# Altium integrated library Infineon_Microcontroller.IntLib: 721 symbols (part 50 of 66)
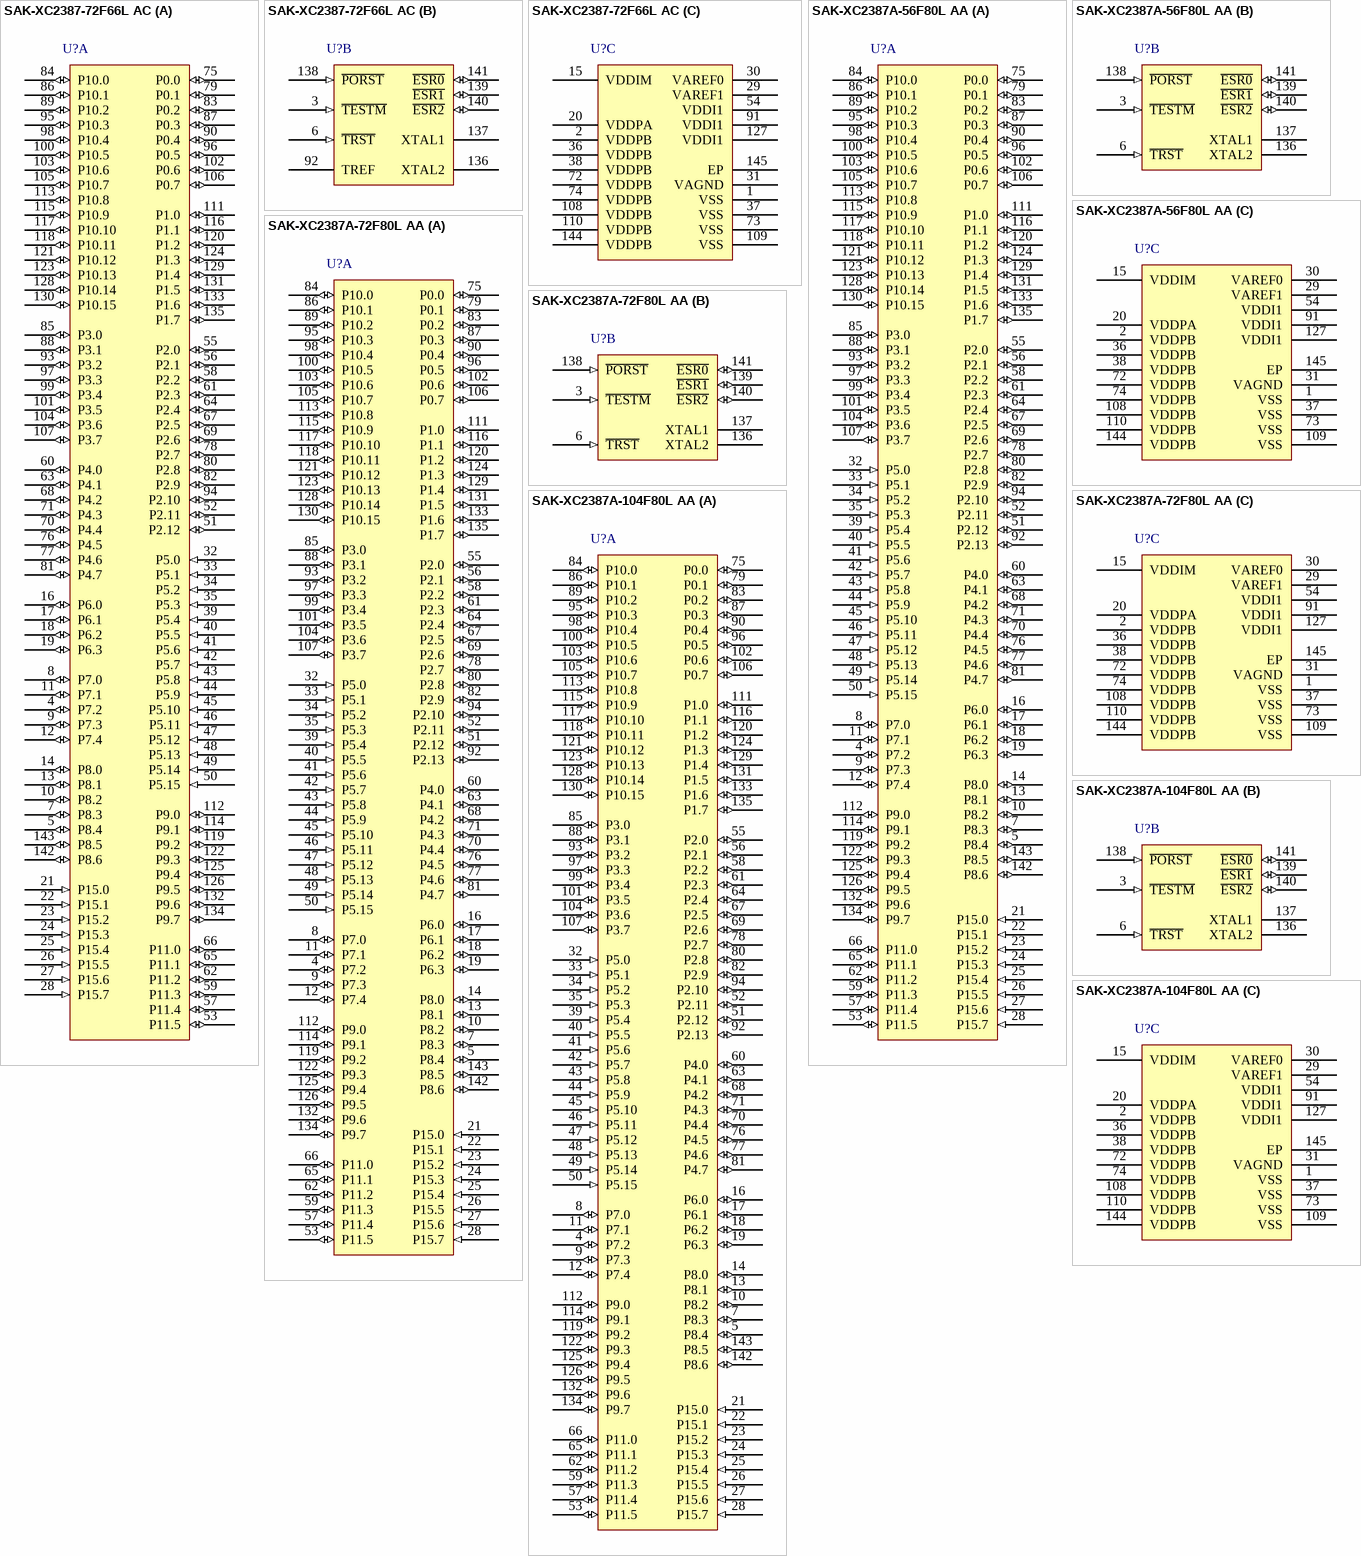
[diagram p167: symbols SAK-XC2387-72F66L AC to SAK-XC2387A-104F80L AA]

## SAK-XC2387A-104F80L AA
designator U?
80 MHz XC2300 MCU with 832 KByte Program Memory, 50 KByte SRAM, 3 V, 5.5 V, -40 to 125 degC, PG-LQFP-144, Reel, Green; Manufacturer: Infineon; PartNumber: SAK-XC2387A-104F80L AA; A / D input lines (incl. FADC): 24; CAN Nodes: 3; Digital I/O Lines: 118; DMA Channels: 8; DSP functionality (e.g MDU/MAC): TRUE; FlexRay TM: FALSE; Instruction width [bits]: 16/32; LIN BSL loader (for fast Flash programming): FALSE; Max Clock Frequency: 80 MHz; Number of ADC Modules: 2; Serial I/O Interfaces: 6; Timed I/O Pins (PWM-Ch,CAPCOM): 36; Timer / Counter: 11; Type of Memory: Flash; Type of Serial I/O Interfaces: SPI(6), LIN, UART, I2C, I2S; DatasheetVersion: Rev. 2.1; PackageVersion: V2.1, 07/2011; PackageReference: PG-LQFP-144-13; PackageDescription: 144-Pin Plastic Green Thin Quad Flat Package, Body 20 x 20 mm, Pitch 0.5 mm; Supplier 1: Digi-Key; Supplier Part Number 1: SAK-XC2387A-104F80L AA-ND; E2PROM Emulation (Data-Flash): TRUE; External Bus interface: TRUE; Green: TRUE; Halogen-free: TRUE; I/O Operation Voltages: 3 V, 5.5 V; On-chip clock generation: TRUE; On-chip Voltage Regulator: TRUE; Oscillator Watchdog: TRUE; Packing: Reel; Power Modes: 3; Program Memory: 832 KByte; Real Time Clock (RTC): TRUE; SRAM (incl. Cache): 50 KByte; Watchdog Timer: TRUE; Mounting Technology: Surface Mount; Code_JEDEC: J-STD-020C; ComponentLink1Description: Manufacturer URL; ComponentLink1URL: http://www.infineon.com/; ComponentLink2Description: Datasheet; ComponentLink2URL: http://www.infineon.com/dgdl/xc238xa_ds_v2+1_2011_07.pdf?folderId=db3a304412b407950112b409d4b00386&fileId=db3a3043353fdc16013557e024517b1e; ComponentLink3Description: Package Specification; ComponentLink3URL: http://www.infineon.com/dgdl/xc238xa_ds_v2+1_2011_07.pdf?folderId=db3a304412b407950112b409d4b00386&fileId=db3a3043353fdc16013557e024517b1e&sId=db3a30443d98b7f0013d9b8ad537024b
footprint INF-PG-LQFP-144-13_N (QFP, 144-Leads, Body 20x20mm, Pitch 0.5mm, Thermal Pad 6.5x6.5mm, IPC Medium Density)
footprint INF-PG-LQFP-144-13_L (QFP, 144-Leads, Body 20x20mm, Pitch 0.5mm, Thermal Pad 6.5x6.5mm, IPC High Density)
footprint INF-PG-LQFP-144-13_M (QFP, 144-Leads, Body 20x20mm, Pitch 0.5mm, Thermal Pad 6.5x6.5mm, IPC Low Density)
part A pins: 4 P7.2 (io), 5 P8.4 (io), 7 P8.3 (io), 8 P7.0 (io), 9 P7.3 (io), 10 P8.2 (io), 11 P7.1 (io), 12 P7.4 (io), 13 P8.1 (io), 14 P8.0 (io), 16 P6.0 (io), 17 P6.1 (io), 18 P6.2 (io), 19 P6.3 (io), 21 P15.0 (in), 22 P15.1 (in), 23 P15.2 (in), 24 P15.3 (in), 25 P15.4 (in), 26 P15.5 (in), 27 P15.6 (in), 28 P15.7 (in), 32 P5.0 (in), 33 P5.1 (in), 34 P5.2 (in), 35 P5.3 (in), 39 P5.4 (in), 40 P5.5 (in), 41 P5.6 (in), 42 P5.7 (in), 43 P5.8 (in), 44 P5.9 (in), 45 P5.10 (in), 46 P5.11 (in), 47 P5.12 (in), 48 P5.13 (in), 49 P5.14 (in), 50 P5.15 (in), 51 P2.12 (io), 52 P2.11 (io), 53 P11.5 (io), 55 P2.0 (io), 56 P2.1 (io), 57 P11.4 (io), 58 P2.2 (io), 59 P11.3 (io), 60 P4.0 (io), 61 P2.3 (io), 62 P11.2 (io), 63 P4.1 (io), 64 P2.4 (io), 65 P11.1 (io), 66 P11.0 (io), 67 P2.5 (io), 68 P4.2 (io), 69 P2.6 (io), 70 P4.4 (io), 71 P4.3 (io), 75 P0.0 (io), 76 P4.5 (io), 77 P4.6 (io), 78 P2.7 (io), 79 P0.1 (io), 80 P2.8 (io), 81 P4.7 (io), 82 P2.9 (io), 83 P0.2 (io), 84 P10.0 (io), 85 P3.0 (io), 86 P10.1 (io), 87 P0.3 (io), 88 P3.1 (io), 89 P10.2 (io), 90 P0.4 (io), 92 P2.13 (io), 93 P3.2 (io), 94 P2.10 (io), 95 P10.3 (io), 96 P0.5 (io), 97 P3.3 (io), 98 P10.4 (io), 99 P3.4 (io), 100 P10.5 (io), 101 P3.5 (io), 102 P0.6 (io), 103 P10.6 (io), 104 P3.6 (io), 105 P10.7 (io), 106 P0.7 (io), 107 P3.7 (io), 111 P1.0 (io), 112 P9.0 (io), 113 P10.8 (io), 114 P9.1 (io), 115 P10.9 (io), 116 P1.1 (io), 117 P10.10 (io), 118 P10.11 (io), 119 P9.2 (io), 120 P1.2 (io), 121 P10.12 (io), 122 P9.3 (io), 123 P10.13 (io), 124 P1.3 (io), 125 P9.4 (io), 126 P9.5 (io), 128 P10.14 (io), 129 P1.4 (io), 130 P10.15 (io), 131 P1.5 (io), 132 P9.6 (io), 133 P1.6 (io), 134 P9.7 (io), 135 P1.7 (io), 142 P8.6 (io), 143 P8.5 (io)
part B pins: 3 ~{TESTM} (in) "Testmode Enable", 6 ~{TRST} (in) "Test-System Reset Input", 136 XTAL2 "Crystal Oscillator Amplifier Output", 137 XTAL1, 138 ~{PORST} (in) "Power On Reset Input", 139 ~{ESR1} (io), 140 ~{ESR2} (io), 141 ~{ESR0} (io)
part C pins: 1 VSS (power) "Digital Ground.", 2 VDDPB (power) "Digital Pad Supply Voltage for Domain B.", 15 VDDIM (power) "Digital Core Supply Voltage for Domain M", 20 VDDPA (power) "Digital Pad Supply Voltage for Domain A.", 29 VAREF1 (power) "Reference Voltage for A/D Converter ADC1", 30 VAREF0 (power) "Reference Voltage for A/D Converter ADC0", 31 VAGND (power) "Reference Ground for A/D Converters ADC0/1", 36 VDDPB (power) "Digital Pad Supply Voltage for Domain B.", 37 VSS (power) "Digital Ground.", 38 VDDPB (power) "Digital Pad Supply Voltage for Domain B.", 54 VDDI1 (power) "Digital Core Supply Voltage for Domain 1", 72 VDDPB (power) "Digital Pad Supply Voltage for Domain B.", 73 VSS (power) "Digital Ground.", 74 VDDPB (power) "Digital Pad Supply Voltage for Domain B.", 91 VDDI1 (power) "Digital Core Supply Voltage for Domain 1", 108 VDDPB (power) "Digital Pad Supply Voltage for Domain B.", 109 VSS (power) "Digital Ground.", 110 VDDPB (power) "Digital Pad Supply Voltage for Domain B.", 127 VDDI1 (power) "Digital Core Supply Voltage for Domain 1", 144 VDDPB (power) "Digital Pad Supply Voltage for Domain B.", 145 EP (power)

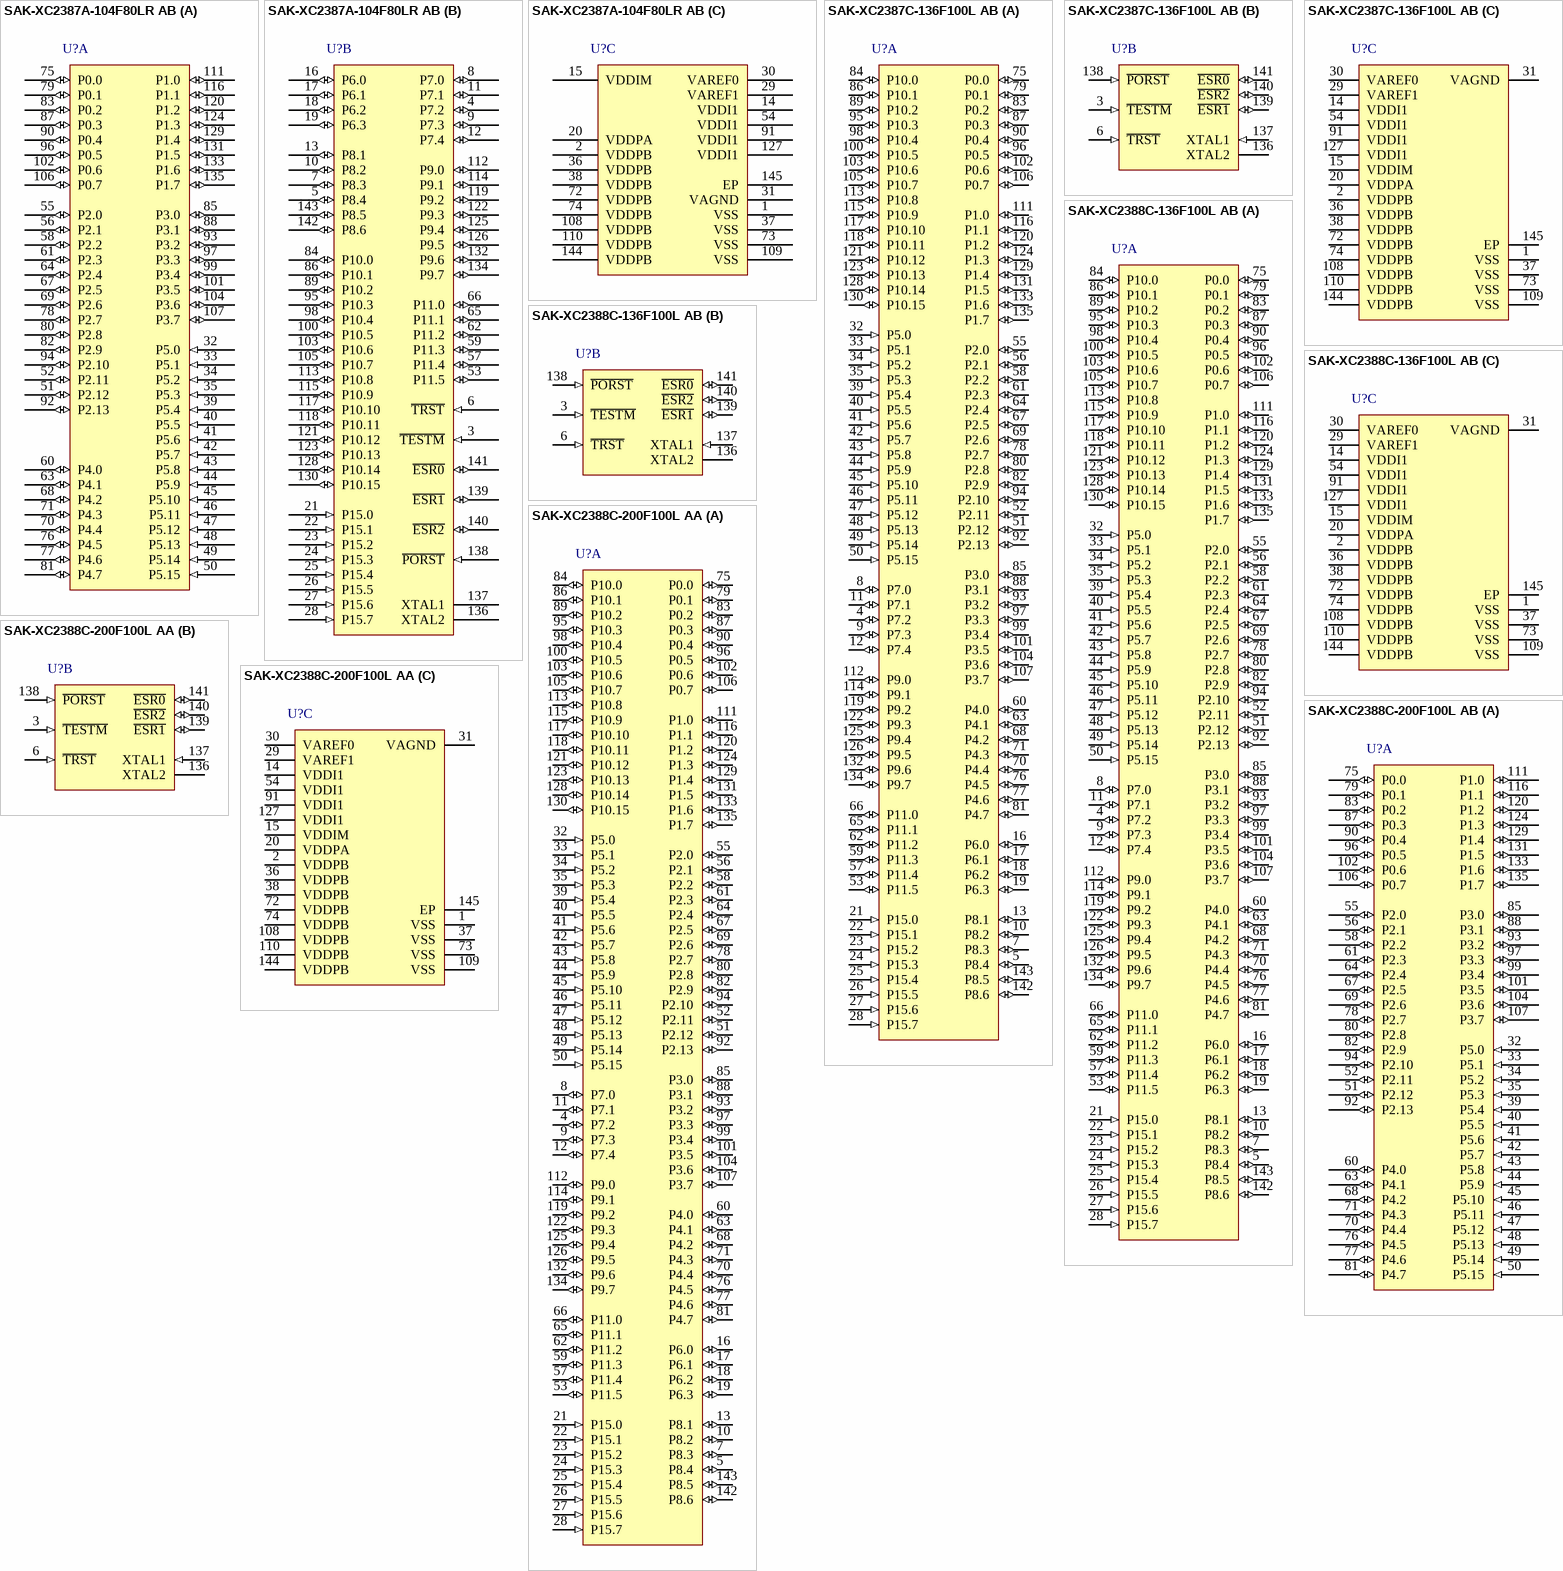
[diagram p90: symbols SAK-XC2387A-104F80LR AB to SAK-XC2388C-200F100L AB]

## SAK-XC2387A-104F80LR AB
designator U?
80 MHz XC2000 MCU with 832 KByte Program Memory, 50 KByte SRAM, 3.3 V, -40 to 125 degC, PG-LQFP-144, Reel, Green; Manufacturer: Infineon; PartNumber: SAK-XC2387A-104F80LR AB; A / D input lines (incl. FADC): 24; CAN Nodes: 3; Digital I/O Lines: 118; DMA Channels: 8; DSP functionality (e.g MDU/MAC): TRUE; FlexRayTM: FALSE; I/O Operation Voltages: 3.3 V; Instruction width [bits]: 16/32; Max Clock Frequency: 80 MHz; Number of ADC Modules: 2; Serial I/O Interfaces: 6; Timed I/O Pins (PWM-Ch,CAPCOM): 32; Timer / Counter: 17; Type of Memory: Flash; Type of Serial I/O Interfaces: UART; DatasheetVersion: Rev. 2.12; PackageReference: PG-LQFP-144-18; PackageDescription: 144-Pin Plastic (Green) Low Profile Quad Flat Package, 20 x 20 mm Body, 0.5 mm Pitch; E2PROM Emulation (Data-Flash): TRUE; External Bus interface: TRUE; Floating Point Unit: FALSE; Green: TRUE; Halogen-free: TRUE; LIN BSL loader (for fast Flash programming): TRUE; On-chip clock generation: TRUE; On-chip Voltage Regulator: TRUE; Oscillator Watchdog: TRUE; Packing: Reel; Power Modes: 2; Program Memory: 832 KByte; Real Time Clock (RTC): TRUE; SRAM (incl. Cache): 50 KByte; Mounting Technology: Surface Mount; ComponentLink1Description: Manufacturer URL; ComponentLink1URL: http://www.infineon.com/; ComponentLink2Description: Datasheet; ComponentLink2URL: http://www.infineon.com/dgdl/xc238xa_ds_v2.12_2014_06.pdf?folderId=db3a304412b407950112b409d4b00386&fileId=db3a3043353fdc16013557e024517b1e; ComponentLink3Description: Package Specification; ComponentLink3URL: http://www.infineon.com/cms/packages/SMD_-_Surface_Mounted_Devices/P-PG-LQFP/P-PG-LQFP-144-04x_13x_14x_15x_16x_18x_23.html?__locale=en
footprint INF-PG-LQFP-144-18-6500X6500TP_N (QFP, 144-Leads, Body 20x20mm, Pitch 0.5mm, Thermal Pad 6.5x6.5mm, IPC Medium Density)
footprint INF-PG-LQFP-144-18-6500X6500TP_L (QFP, 144-Leads, Body 20x20mm, Pitch 0.5mm, Thermal Pad 6.5x6.5mm, IPC High Density)
footprint INF-PG-LQFP-144-18-6500X6500TP_M (QFP, 144-Leads, Body 20x20mm, Pitch 0.5mm, Thermal Pad 6.5x6.5mm, IPC Low Density)
part A pins: 32 P5.0 (in), 33 P5.1 (in), 34 P5.2 (in), 35 P5.3 (in), 39 P5.4 (in), 40 P5.5 (in), 41 P5.6 (in), 42 P5.7 (in), 43 P5.8 (in), 44 P5.9 (in), 45 P5.10 (in), 46 P5.11 (in), 47 P5.12 (in), 48 P5.13 (in), 49 P5.14 (in), 50 P5.15 (in), 51 P2.12 (io), 52 P2.11 (io), 55 P2.0 (io), 56 P2.1 (io), 58 P2.2 (io), 60 P4.0 (io), 61 P2.3 (io), 63 P4.1 (io), 64 P2.4 (io), 67 P2.5 (io), 68 P4.2 (io), 69 P2.6 (io), 70 P4.4 (io), 71 P4.3 (io), 75 P0.0 (io), 76 P4.5 (io), 77 P4.6 (io), 78 P2.7 (io), 79 P0.1 (io), 80 P2.8 (io), 81 P4.7 (io), 82 P2.9 (io), 83 P0.2 (io), 85 P3.0 (io), 87 P0.3 (io), 88 P3.1 (io), 90 P0.4 (io), 92 P2.13 (io), 93 P3.2 (io), 94 P2.10 (io), 96 P0.5 (io), 97 P3.3 (io), 99 P3.4 (io), 101 P3.5 (io), 102 P0.6 (io), 104 P3.6 (io), 106 P0.7 (io), 107 P3.7 (io), 111 P1.0 (io), 116 P1.1 (io), 120 P1.2 (io), 124 P1.3 (io), 129 P1.4 (io), 131 P1.5 (io), 133 P1.6 (io), 135 P1.7 (io)
part B pins: 3 ~{TESTM} (in) "Testmode Enable", 4 P7.2 (io), 5 P8.4 (io), 6 ~{TRST} (in) "Test-System Reset Input", 7 P8.3 (io), 8 P7.0 (io), 9 P7.3 (io), 10 P8.2 (io), 11 P7.1 (io), 12 P7.4 (io), 13 P8.1 (io), 16 P6.0 (io), 17 P6.1 (io), 18 P6.2 (io), 19 P6.3 (io), 21 P15.0 (in), 22 P15.1 (in), 23 P15.2 (in), 24 P15.3 (in), 25 P15.4 (in), 26 P15.5 (in), 27 P15.6 (in), 28 P15.7 (in), 53 P11.5 (io), 57 P11.4 (io), 59 P11.3 (io), 62 P11.2 (io), 65 P11.1 (io), 66 P11.0 (io), 84 P10.0 (io), 86 P10.1 (io), 89 P10.2 (io), 95 P10.3 (io), 98 P10.4 (io), 100 P10.5 (io), 103 P10.6 (io), 105 P10.7 (io), 112 P9.0 (io), 113 P10.8 (io), 114 P9.1 (io), 115 P10.9 (io), 117 P10.10 (io), 118 P10.11 (io), 119 P9.2 (io), 121 P10.12 (io), 122 P9.3 (io), 123 P10.13 (io), 125 P9.4 (io), 126 P9.5 (io), 128 P10.14 (io), 130 P10.15 (io), 132 P9.6 (io), 134 P9.7 (io), 136 XTAL2 "Crystal Oscillator Amplifier Output", 137 XTAL1, 138 ~{PORST} (in) "Power On Reset Input", 139 ~{ESR1} (io), 140 ~{ESR2} (io), 141 ~{ESR0} (io), 142 P8.6 (io), 143 P8.5 (io)
part C pins: 1 VSS (power) "Digital Ground", 2 VDDPB (power) "Digital Pad Supply Voltage for Domain B", 14 VDDI1 (power) "Digital Core Supply Voltage for Domain 1", 15 VDDIM (power) "Digital Core Supply Voltage for Domain M", 20 VDDPA (power) "Digital Pad Supply Voltage for Domain A", 29 VAREF1 (power) "Reference Voltage for A/D Converter ADC1", 30 VAREF0 (power) "Reference Voltage for A/D Converter ADC0", 31 VAGND (power) "Reference Ground for A/D Converters ADC0/1", 36 VDDPB (power) "Digital Pad Supply Voltage for Domain B", 37 VSS (power) "Digital Ground", 38 VDDPB (power) "Digital Pad Supply Voltage for Domain B", 54 VDDI1 (power) "Digital Core Supply Voltage for Domain 1", 72 VDDPB (power) "Digital Pad Supply Voltage for Domain B", 73 VSS (power) "Digital Ground", 74 VDDPB (power) "Digital Pad Supply Voltage for Domain B", 91 VDDI1 (power) "Digital Core Supply Voltage for Domain 1", 108 VDDPB (power) "Digital Pad Supply Voltage for Domain B", 109 VSS (power) "Digital Ground", 110 VDDPB (power) "Digital Pad Supply Voltage for Domain B", 127 VDDI1 (power) "Digital Core Supply Voltage for Domain 1", 144 VDDPB (power) "Digital Pad Supply Voltage for Domain B", 145 EP (power)

## SAK-XC2387C-136F100L AB
designator U?
100 MHz XC2300 MCU with 1,088 KByte Program Memory, 90 KByte SRAM, 3 V, 5.5 V, -40 to 125 degC, PG-LQFP-144, Reel, Green; Manufacturer: Infineon; PartNumber: SAK-XC2387C-136F100L AB; A / D input lines (incl. FADC): 24; CAN Nodes: 3; Digital I/O Lines: 118; DMA Channels: 8; DSP functionality (e.g MDU/MAC): TRUE; FlexRay TM: FALSE; Instruction width [bits]: 16/32; Max Clock Frequency: 100 MHz; Number of ADC Modules: 2; Serial I/O Interfaces: 6; Timed I/O Pins (PWM-Ch,CAPCOM): 32; Timer / Counter: 19; Type of Memory: Flash; Type of Serial I/O Interfaces: SPI(1), LIN, UART, I2C, I2S; DatasheetVersion: Rev. 1.3; PackageVersion: V2.1, 07/2011; PackageReference: PG-LQFP-144-13; PackageDescription: 144-Pin Plastic Green Thin Quad Flat Package, Body 20 x 20 mm, Pitch 0.5 mm; E2PROM Emulation (Data-Flash): TRUE; External Bus interface: TRUE; Green: TRUE; Halogen-free: TRUE; I/O Operation Voltages: 3 V, 5.5 V; LIN BSL loader (for fast Flash programming): TRUE; On-chip clock generation: TRUE; On-chip Voltage Regulator: TRUE; Oscillator Watchdog: TRUE; Packing: Reel; Power Modes: 2; Program Memory: 1,088 KByte; Real Time Clock (RTC): TRUE; SRAM (incl. Cache): 90 KByte; Watchdog Timer: TRUE; Mounting Technology: Surface Mount; Code_JEDEC: J-STD-020C; ComponentLink1Description: Manufacturer URL; ComponentLink1URL: http://www.infineon.com/; ComponentLink2Description: Datasheet; ComponentLink2URL: http://www.infineon.com/dgdl/xc238xc_ds_v1.3_2011_07.pdf?folderId=db3a30431375fb1a0113864e0cc701b6&fileId=db3a304328c6bd5c012911df7971097e; ComponentLink3Description: Package Specification; ComponentLink3URL: http://www.infineon.com/dgdl/xc238xa_ds_v2+1_2011_07.pdf?folderId=db3a304412b407950112b409d4b00386&fileId=db3a3043353fdc16013557e024517b1e&sId=db3a30443d98b7f0013d9b8ad537024b
footprint INF-PG-LQFP-144-13_N (QFP, 144-Leads, Body 20x20mm, Pitch 0.5mm, Thermal Pad 6.5x6.5mm, IPC Medium Density)
footprint INF-PG-LQFP-144-13_L (QFP, 144-Leads, Body 20x20mm, Pitch 0.5mm, Thermal Pad 6.5x6.5mm, IPC High Density)
footprint INF-PG-LQFP-144-13_M (QFP, 144-Leads, Body 20x20mm, Pitch 0.5mm, Thermal Pad 6.5x6.5mm, IPC Low Density)
part A pins: 4 P7.2 (io), 5 P8.4 (io), 7 P8.3 (io), 8 P7.0 (io), 9 P7.3 (io), 10 P8.2 (io), 11 P7.1 (io), 12 P7.4 (io), 13 P8.1 (io), 16 P6.0 (io), 17 P6.1 (io), 18 P6.2 (io), 19 P6.3 (io), 21 P15.0 (in), 22 P15.1 (in), 23 P15.2 (in), 24 P15.3 (in), 25 P15.4 (in), 26 P15.5 (in), 27 P15.6 (in), 28 P15.7 (in), 32 P5.0 (in), 33 P5.1 (in), 34 P5.2 (in), 35 P5.3 (in), 39 P5.4 (in), 40 P5.5 (in), 41 P5.6 (in), 42 P5.7 (in), 43 P5.8 (in), 44 P5.9 (in), 45 P5.10 (in), 46 P5.11 (in), 47 P5.12 (in), 48 P5.13 (in), 49 P5.14 (in), 50 P5.15 (in), 51 P2.12 (io), 52 P2.11 (io), 53 P11.5 (io), 55 P2.0 (io), 56 P2.1 (io), 57 P11.4 (io), 58 P2.2 (io), 59 P11.3 (io), 60 P4.0 (io), 61 P2.3 (io), 62 P11.2 (io), 63 P4.1 (io), 64 P2.4 (io), 65 P11.1 (io), 66 P11.0 (io), 67 P2.5 (io), 68 P4.2 (io), 69 P2.6 (io), 70 P4.4 (io), 71 P4.3 (io), 75 P0.0 (io), 76 P4.5 (io), 77 P4.6 (io), 78 P2.7 (io), 79 P0.1 (io), 80 P2.8 (io), 81 P4.7 (io), 82 P2.9 (io), 83 P0.2 (io), 84 P10.0 (io), 85 P3.0 (io), 86 P10.1 (io), 87 P0.3 (io), 88 P3.1 (io), 89 P10.2 (io), 90 P0.4 (io), 92 P2.13 (io), 93 P3.2 (io), 94 P2.10 (io), 95 P10.3 (io), 96 P0.5 (io), 97 P3.3 (io), 98 P10.4 (io), 99 P3.4 (io), 100 P10.5 (io), 101 P3.5 (io), 102 P0.6 (io), 103 P10.6 (io), 104 P3.6 (io), 105 P10.7 (io), 106 P0.7 (io), 107 P3.7 (io), 111 P1.0 (io), 112 P9.0 (io), 113 P10.8 (io), 114 P9.1 (io), 115 P10.9 (io), 116 P1.1 (io), 117 P10.10 (io), 118 P10.11 (io), 119 P9.2 (io), 120 P1.2 (io), 121 P10.12 (io), 122 P9.3 (io), 123 P10.13 (io), 124 P1.3 (io), 125 P9.4 (io), 126 P9.5 (io), 128 P10.14 (io), 129 P1.4 (io), 130 P10.15 (io), 131 P1.5 (io), 132 P9.6 (io), 133 P1.6 (io), 134 P9.7 (io), 135 P1.7 (io), 142 P8.6 (io), 143 P8.5 (io)
part B pins: 3 ~{TESTM} (in) "Testmode Enable", 6 ~{TRST} (in) "Test-System Reset Input", 136 XTAL2 "Crystal Oscillator Amplifier Output", 137 XTAL1 (in), 138 ~{PORST} (in) "Power On Reset Input", 139 ~{ESR1} (io), 140 ~{ESR2} (io), 141 ~{ESR0} (io)
part C pins: 1 VSS (power) "Digital Ground", 2 VDDPB (power) "Digital Pad Supply Voltage for Domain B", 14 VDDI1 (power) "Digital Core Supply Voltage for Domain 1", 15 VDDIM (power) "Digital Core Supply Voltage for Domain M", 20 VDDPA (power) "Digital Pad Supply Voltage for Domain A", 29 VAREF1 (power) "Reference Voltage for A/D Converter ADC1", 30 VAREF0 (power) "Reference Voltage for A/D Converter ADC0", 31 VAGND (power) "Reference Ground for A/D Converters ADC0/1", 36 VDDPB (power) "Digital Pad Supply Voltage for Domain B", 37 VSS (power) "Digital Ground", 38 VDDPB (power) "Digital Pad Supply Voltage for Domain B", 54 VDDI1 (power) "Digital Core Supply Voltage for Domain 1", 72 VDDPB (power) "Digital Pad Supply Voltage for Domain B", 73 VSS (power) "Digital Ground", 74 VDDPB (power) "Digital Pad Supply Voltage for Domain B", 91 VDDI1 (power) "Digital Core Supply Voltage for Domain 1", 108 VDDPB (power) "Digital Pad Supply Voltage for Domain B", 109 VSS (power) "Digital Ground", 110 VDDPB (power) "Digital Pad Supply Voltage for Domain B", 127 VDDI1 (power) "Digital Core Supply Voltage for Domain 1", 144 VDDPB (power) "Digital Pad Supply Voltage for Domain B", 145 EP (power) "Connected internally to VSS."

## SAK-XC2388C-136F100L AB
designator U?
100 MHz XC2300 MCU with 1,088 KByte Program Memory, 106 KByte SRAM, 3 V, 5.5 V, -40 to 125 degC, PG-LQFP-144, Reel, Green; Manufacturer: Infineon; PartNumber: SAK-XC2388C-136F100L AB; A / D input lines (incl. FADC): 24; CAN Nodes: 3; Digital I/O Lines: 118; DMA Channels: 8; DSP functionality (e.g MDU/MAC): TRUE; Instruction width [bits]: 16/32; Max Clock Frequency: 100 MHz; Number of ADC Modules: 2; Timed I/O Pins (PWM-Ch,CAPCOM): 32; Timer / Counter: 19; Type of Memory: Flash; Type of Serial I/O Interfaces: SPI(1), LIN, UART, I2C, I2S; DatasheetVersion: Rev. 1.3; PackageVersion: V2.1, 07/2011; PackageReference: PG-LQFP-144-13; PackageDescription: 144-Pin Plastic Green Thin Quad Flat Package, Body 20 x 20 mm, Pitch 0.5 mm; E2PROM Emulation (Data-Flash): TRUE; External Bus interface: TRUE; FlexRay TM: TRUE; Green: TRUE; Halogen-free: TRUE; I/O Operation Voltages: 3 V, 5.5 V; LIN BSL loader (for fast Flash programming): TRUE; On-chip clock generation: TRUE; On-chip Voltage Regulator: TRUE; Oscillator Watchdog: TRUE; Packing: Reel; Power Modes: 2; Program Memory: 1,088 KByte; Real Time Clock (RTC): TRUE; Serial I/O Interfaces: 8; SRAM (incl. Cache): 106 KByte; Watchdog Timer: TRUE; Mounting Technology: Surface Mount; Code_JEDEC: J-STD-020C; ComponentLink1Description: Manufacturer URL; ComponentLink1URL: http://www.infineon.com/; ComponentLink2Description: Datasheet; ComponentLink2URL: http://www.infineon.com/dgdl/xc238xc_ds_v1.3_2011_07.pdf?folderId=db3a30431375fb1a0113864e0cc701b6&fileId=db3a304328c6bd5c012911df7971097e; ComponentLink3Description: Package Specification; ComponentLink3URL: http://www.infineon.com/dgdl/xc238xa_ds_v2+1_2011_07.pdf?folderId=db3a304412b407950112b409d4b00386&fileId=db3a3043353fdc16013557e024517b1e&sId=db3a30443d98b7f0013d9b8ad537024b
footprint INF-PG-LQFP-144-13_N (QFP, 144-Leads, Body 20x20mm, Pitch 0.5mm, Thermal Pad 6.5x6.5mm, IPC Medium Density)
footprint INF-PG-LQFP-144-13_L (QFP, 144-Leads, Body 20x20mm, Pitch 0.5mm, Thermal Pad 6.5x6.5mm, IPC High Density)
footprint INF-PG-LQFP-144-13_M (QFP, 144-Leads, Body 20x20mm, Pitch 0.5mm, Thermal Pad 6.5x6.5mm, IPC Low Density)
part A pins: 4 P7.2 (io), 5 P8.4 (io), 7 P8.3 (io), 8 P7.0 (io), 9 P7.3 (io), 10 P8.2 (io), 11 P7.1 (io), 12 P7.4 (io), 13 P8.1 (io), 16 P6.0 (io), 17 P6.1 (io), 18 P6.2 (io), 19 P6.3 (io), 21 P15.0 (in), 22 P15.1 (in), 23 P15.2 (in), 24 P15.3 (in), 25 P15.4 (in), 26 P15.5 (in), 27 P15.6 (in), 28 P15.7 (in), 32 P5.0 (in), 33 P5.1 (in), 34 P5.2 (in), 35 P5.3 (in), 39 P5.4 (in), 40 P5.5 (in), 41 P5.6 (in), 42 P5.7 (in), 43 P5.8 (in), 44 P5.9 (in), 45 P5.10 (in), 46 P5.11 (in), 47 P5.12 (in), 48 P5.13 (in), 49 P5.14 (in), 50 P5.15 (in), 51 P2.12 (io), 52 P2.11 (io), 53 P11.5 (io), 55 P2.0 (io), 56 P2.1 (io), 57 P11.4 (io), 58 P2.2 (io), 59 P11.3 (io), 60 P4.0 (io), 61 P2.3 (io), 62 P11.2 (io), 63 P4.1 (io), 64 P2.4 (io), 65 P11.1 (io), 66 P11.0 (io), 67 P2.5 (io), 68 P4.2 (io), 69 P2.6 (io), 70 P4.4 (io), 71 P4.3 (io), 75 P0.0 (io), 76 P4.5 (io), 77 P4.6 (io), 78 P2.7 (io), 79 P0.1 (io), 80 P2.8 (io), 81 P4.7 (io), 82 P2.9 (io), 83 P0.2 (io), 84 P10.0 (io), 85 P3.0 (io), 86 P10.1 (io), 87 P0.3 (io), 88 P3.1 (io), 89 P10.2 (io), 90 P0.4 (io), 92 P2.13 (io), 93 P3.2 (io), 94 P2.10 (io), 95 P10.3 (io), 96 P0.5 (io), 97 P3.3 (io), 98 P10.4 (io), 99 P3.4 (io), 100 P10.5 (io), 101 P3.5 (io), 102 P0.6 (io), 103 P10.6 (io), 104 P3.6 (io), 105 P10.7 (io), 106 P0.7 (io), 107 P3.7 (io), 111 P1.0 (io), 112 P9.0 (io), 113 P10.8 (io), 114 P9.1 (io), 115 P10.9 (io), 116 P1.1 (io), 117 P10.10 (io), 118 P10.11 (io), 119 P9.2 (io), 120 P1.2 (io), 121 P10.12 (io), 122 P9.3 (io), 123 P10.13 (io), 124 P1.3 (io), 125 P9.4 (io), 126 P9.5 (io), 128 P10.14 (io), 129 P1.4 (io), 130 P10.15 (io), 131 P1.5 (io), 132 P9.6 (io), 133 P1.6 (io), 134 P9.7 (io), 135 P1.7 (io), 142 P8.6 (io), 143 P8.5 (io)
part B pins: 3 ~{TESTM} (in) "Testmode Enable", 6 ~{TRST} (in) "Test-System Reset Input", 136 XTAL2 "Crystal Oscillator Amplifier Output", 137 XTAL1 (in), 138 ~{PORST} (in) "Power On Reset Input", 139 ~{ESR1} (io), 140 ~{ESR2} (io), 141 ~{ESR0} (io)
part C pins: 1 VSS (power) "Digital Ground", 2 VDDPB (power) "Digital Pad Supply Voltage for Domain B", 14 VDDI1 (power) "Digital Core Supply Voltage for Domain 1", 15 VDDIM (power) "Digital Core Supply Voltage for Domain M", 20 VDDPA (power) "Digital Pad Supply Voltage for Domain A", 29 VAREF1 (power) "Reference Voltage for A/D Converter ADC1", 30 VAREF0 (power) "Reference Voltage for A/D Converter ADC0", 31 VAGND (power) "Reference Ground for A/D Converters ADC0/1", 36 VDDPB (power) "Digital Pad Supply Voltage for Domain B", 37 VSS (power) "Digital Ground", 38 VDDPB (power) "Digital Pad Supply Voltage for Domain B", 54 VDDI1 (power) "Digital Core Supply Voltage for Domain 1", 72 VDDPB (power) "Digital Pad Supply Voltage for Domain B", 73 VSS (power) "Digital Ground", 74 VDDPB (power) "Digital Pad Supply Voltage for Domain B", 91 VDDI1 (power) "Digital Core Supply Voltage for Domain 1", 108 VDDPB (power) "Digital Pad Supply Voltage for Domain B", 109 VSS (power) "Digital Ground", 110 VDDPB (power) "Digital Pad Supply Voltage for Domain B", 127 VDDI1 (power) "Digital Core Supply Voltage for Domain 1", 144 VDDPB (power) "Digital Pad Supply Voltage for Domain B", 145 EP (power) "Connected internally to VSS."

## SAK-XC2388C-200F100L AA
designator U?
100 MHz XC2300 MCU with 1,600 KByte Program Memory, 138 KByte SRAM, 3 V, 5.5 V, -40 to 125 degC, PG-LQFP-144, Reel, Green; Manufacturer: Infineon; PartNumber: SAK-XC2388C-200F100L AA; A / D input lines (incl. FADC): 24; CAN Nodes: 3; Digital I/O Lines: 118; DMA Channels: 8; DSP functionality (e.g MDU/MAC): TRUE; Instruction width [bits]: 16/32; Max Clock Frequency: 100 MHz; Number of ADC Modules: 2; Timed I/O Pins (PWM-Ch,CAPCOM): 32; Timer / Counter: 19; Type of Memory: Flash; Type of Serial I/O Interfaces: SPI(1), LIN, UART, I2C, I2S; DatasheetVersion: Rev. 1.3; PackageVersion: V2.1, 07/2011; PackageReference: PG-LQFP-144-13; PackageDescription: 144-Pin Plastic Green Thin Quad Flat Package, Body 20 x 20 mm, Pitch 0.5 mm; E2PROM Emulation (Data-Flash): TRUE; External Bus interface: TRUE; FlexRay TM: TRUE; Green: TRUE; Halogen-free: available; I/O Operation Voltages: 3 V, 5.5 V; LIN BSL loader (for fast Flash programming): TRUE; On-chip clock generation: TRUE; On-chip Voltage Regulator: TRUE; Oscillator Watchdog: TRUE; Packing: Reel; Power Modes: 2; Program Memory: 1,600 KByte; Real Time Clock (RTC): TRUE; Serial I/O Interfaces: 8; SRAM (incl. Cache): 138 KByte; Watchdog Timer: TRUE; Mounting Technology: Surface Mount; Code_JEDEC: J-STD-020C; ComponentLink1Description: Manufacturer URL; ComponentLink1URL: http://www.infineon.com/; ComponentLink2Description: Datasheet; ComponentLink2URL: http://www.infineon.com/dgdl/xc238xc_ds_v1.3_2011_07.pdf?folderId=db3a30431375fb1a0113864e0cc701b6&fileId=db3a304328c6bd5c012911df7971097e; ComponentLink3Description: Package Specification; ComponentLink3URL: http://www.infineon.com/dgdl/xc238xa_ds_v2+1_2011_07.pdf?folderId=db3a304412b407950112b409d4b00386&fileId=db3a3043353fdc16013557e024517b1e&sId=db3a30443d98b7f0013d9b8ad537024b
footprint INF-PG-LQFP-144-13_N (QFP, 144-Leads, Body 20x20mm, Pitch 0.5mm, Thermal Pad 6.5x6.5mm, IPC Medium Density)
footprint INF-PG-LQFP-144-13_L (QFP, 144-Leads, Body 20x20mm, Pitch 0.5mm, Thermal Pad 6.5x6.5mm, IPC High Density)
footprint INF-PG-LQFP-144-13_M (QFP, 144-Leads, Body 20x20mm, Pitch 0.5mm, Thermal Pad 6.5x6.5mm, IPC Low Density)
part A pins: 4 P7.2 (io), 5 P8.4 (io), 7 P8.3 (io), 8 P7.0 (io), 9 P7.3 (io), 10 P8.2 (io), 11 P7.1 (io), 12 P7.4 (io), 13 P8.1 (io), 16 P6.0 (io), 17 P6.1 (io), 18 P6.2 (io), 19 P6.3 (io), 21 P15.0 (in), 22 P15.1 (in), 23 P15.2 (in), 24 P15.3 (in), 25 P15.4 (in), 26 P15.5 (in), 27 P15.6 (in), 28 P15.7 (in), 32 P5.0 (in), 33 P5.1 (in), 34 P5.2 (in), 35 P5.3 (in), 39 P5.4 (in), 40 P5.5 (in), 41 P5.6 (in), 42 P5.7 (in), 43 P5.8 (in), 44 P5.9 (in), 45 P5.10 (in), 46 P5.11 (in), 47 P5.12 (in), 48 P5.13 (in), 49 P5.14 (in), 50 P5.15 (in), 51 P2.12 (io), 52 P2.11 (io), 53 P11.5 (io), 55 P2.0 (io), 56 P2.1 (io), 57 P11.4 (io), 58 P2.2 (io), 59 P11.3 (io), 60 P4.0 (io), 61 P2.3 (io), 62 P11.2 (io), 63 P4.1 (io), 64 P2.4 (io), 65 P11.1 (io), 66 P11.0 (io), 67 P2.5 (io), 68 P4.2 (io), 69 P2.6 (io), 70 P4.4 (io), 71 P4.3 (io), 75 P0.0 (io), 76 P4.5 (io), 77 P4.6 (io), 78 P2.7 (io), 79 P0.1 (io), 80 P2.8 (io), 81 P4.7 (io), 82 P2.9 (io), 83 P0.2 (io), 84 P10.0 (io), 85 P3.0 (io), 86 P10.1 (io), 87 P0.3 (io), 88 P3.1 (io), 89 P10.2 (io), 90 P0.4 (io), 92 P2.13 (io), 93 P3.2 (io), 94 P2.10 (io), 95 P10.3 (io), 96 P0.5 (io), 97 P3.3 (io), 98 P10.4 (io), 99 P3.4 (io), 100 P10.5 (io), 101 P3.5 (io), 102 P0.6 (io), 103 P10.6 (io), 104 P3.6 (io), 105 P10.7 (io), 106 P0.7 (io), 107 P3.7 (io), 111 P1.0 (io), 112 P9.0 (io), 113 P10.8 (io), 114 P9.1 (io), 115 P10.9 (io), 116 P1.1 (io), 117 P10.10 (io), 118 P10.11 (io), 119 P9.2 (io), 120 P1.2 (io), 121 P10.12 (io), 122 P9.3 (io), 123 P10.13 (io), 124 P1.3 (io), 125 P9.4 (io), 126 P9.5 (io), 128 P10.14 (io), 129 P1.4 (io), 130 P10.15 (io), 131 P1.5 (io), 132 P9.6 (io), 133 P1.6 (io), 134 P9.7 (io), 135 P1.7 (io), 142 P8.6 (io), 143 P8.5 (io)
part B pins: 3 ~{TESTM} (in) "Testmode Enable", 6 ~{TRST} (in) "Test-System Reset Input", 136 XTAL2 "Crystal Oscillator Amplifier Output", 137 XTAL1 (in), 138 ~{PORST} (in) "Power On Reset Input", 139 ~{ESR1} (io), 140 ~{ESR2} (io), 141 ~{ESR0} (io)
part C pins: 1 VSS (power) "Digital Ground", 2 VDDPB (power) "Digital Pad Supply Voltage for Domain B", 14 VDDI1 (power) "Digital Core Supply Voltage for Domain 1", 15 VDDIM (power) "Digital Core Supply Voltage for Domain M", 20 VDDPA (power) "Digital Pad Supply Voltage for Domain A", 29 VAREF1 (power) "Reference Voltage for A/D Converter ADC1", 30 VAREF0 (power) "Reference Voltage for A/D Converter ADC0", 31 VAGND (power) "Reference Ground for A/D Converters ADC0/1", 36 VDDPB (power) "Digital Pad Supply Voltage for Domain B", 37 VSS (power) "Digital Ground", 38 VDDPB (power) "Digital Pad Supply Voltage for Domain B", 54 VDDI1 (power) "Digital Core Supply Voltage for Domain 1", 72 VDDPB (power) "Digital Pad Supply Voltage for Domain B", 73 VSS (power) "Digital Ground", 74 VDDPB (power) "Digital Pad Supply Voltage for Domain B", 91 VDDI1 (power) "Digital Core Supply Voltage for Domain 1", 108 VDDPB (power) "Digital Pad Supply Voltage for Domain B", 109 VSS (power) "Digital Ground", 110 VDDPB (power) "Digital Pad Supply Voltage for Domain B", 127 VDDI1 (power) "Digital Core Supply Voltage for Domain 1", 144 VDDPB (power) "Digital Pad Supply Voltage for Domain B", 145 EP (power) "Connected internally to VSS."

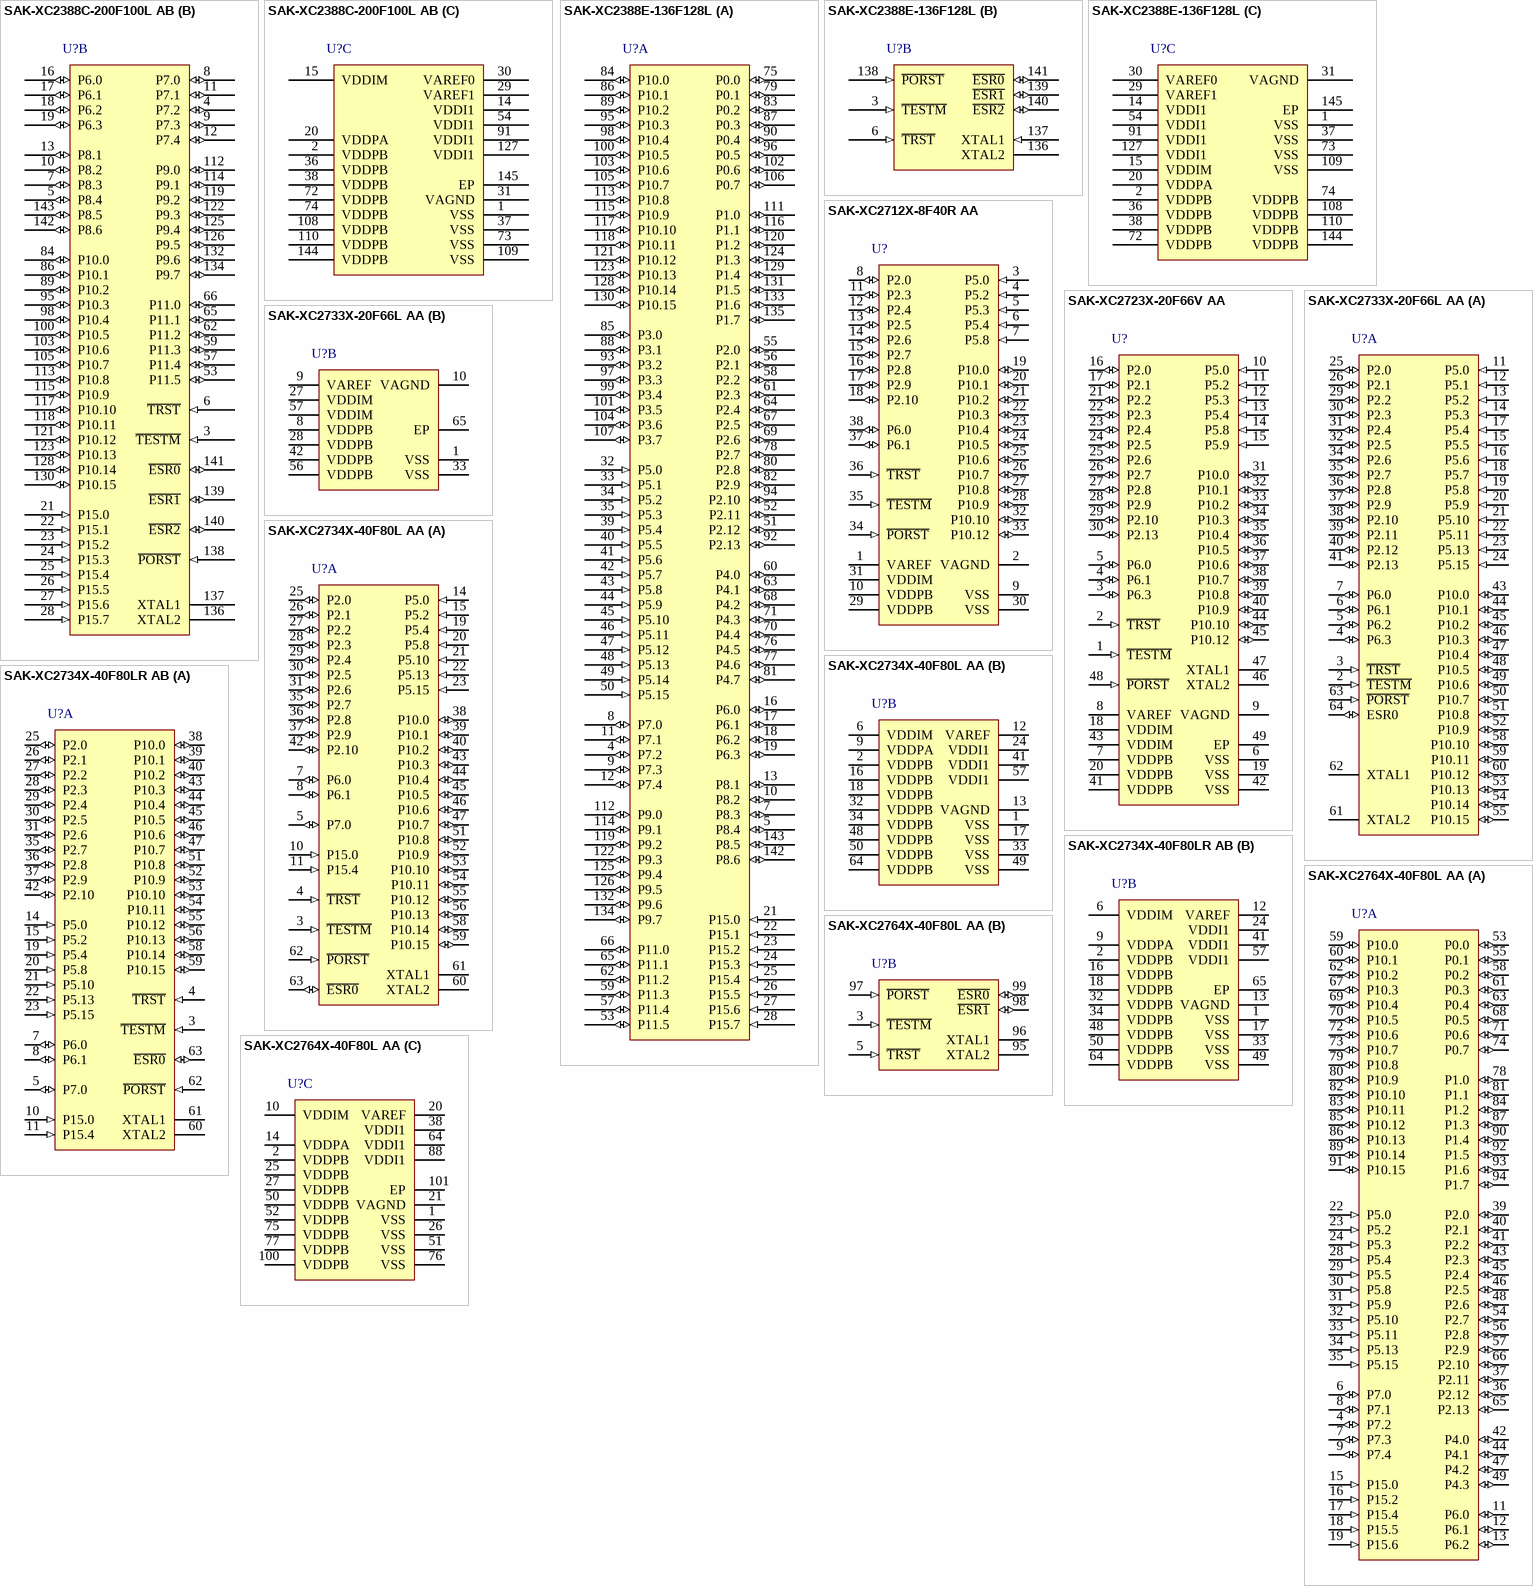
[diagram p91: symbols SAK-XC2388C-200F100L AB to SAK-XC2764X-40F80L AA]

## SAK-XC2388C-200F100L AB
designator U?
100 MHz XC2000 MCU with 1600 KByte Program Memory, 138 KByte SRAM, 3.3 V, 5 V, -40 to 125 degC, PG-LQFP-144, Reel, Green; Manufacturer: Infineon; PartNumber: SAK-XC2388C-200F100L AB; A / D input lines (incl. FADC): 24; CAN Nodes: 3; Digital I/O Lines: 118; DMA Channels: 8; DSP functionality (e.g MDU/MAC): TRUE; Floating Point Unit: FALSE; Instruction width [bits]: 16/32; Max Clock Frequency: 100 MHz; Number of ADC Modules: 2; Program Memory: 1,600 KByte; Timed I/O Pins (PWM-Ch,CAPCOM): 32; Timer / Counter: 19; Type of Memory: Flash; Type of Serial I/O Interfaces: SPI, LIN, UART, I2C, I2S; DatasheetVersion: Rev. 1.3; PackageVersion: Rev. 06; PackageReference: PG-LQFP-144-13-8000X8000TP; PackageDescription: 144-Pin Plastic (Green) Low Profile Quad Flat Package, 20 x 20 mm Body, 0.5 mm Pitch; E2PROM Emulation (Data-Flash): TRUE; External Bus interface: TRUE; FlexRayTM: TRUE; Green: TRUE; Halogen-free: TRUE; I/O Operation Voltages: 3.3 V,5 V; LIN BSL loader (for fast Flash programming): TRUE; On-chip clock generation: TRUE; On-chip Voltage Regulator: TRUE; Oscillator Watchdog: TRUE; Packing: Reel; Power Modes: 2; Real Time Clock (RTC): TRUE; Serial I/O Interfaces: 8; SRAM (incl. Cache): 138 KByte; Mounting Technology: Surface Mount; ComponentLink1Description: Manufacturer URL; ComponentLink1URL: http://www.infineon.com/; ComponentLink2Description: Datasheet; ComponentLink2URL: http://www.infineon.com/dgdl/xc238xc_ds_v1.3_2011_07.pdf?folderId=db3a30431375fb1a0113864e0cc701b6&fileId=db3a304328c6bd5c012911df7971097e; ComponentLink3Description: Package Specification; ComponentLink3URL: http://www.infineon.com/cms/packages/SMD_-_Surface_Mounted_Devices/P-PG-LQFP/P-PG-LQFP-144-04x_13x_14x_15x_16x_18x_23.html?__locale=en
footprint INF-PG-LQFP-144-13-8000X8000TP_V (QFP, 144-Leads, Body 20x20mm, Pitch 0.5mm, Thermal Pad 8x8mm)
part A pins: 32 P5.0 (in), 33 P5.1 (in), 34 P5.2 (in), 35 P5.3 (in), 39 P5.4 (in), 40 P5.5 (in), 41 P5.6 (in), 42 P5.7 (in), 43 P5.8 (in), 44 P5.9 (in), 45 P5.10 (in), 46 P5.11 (in), 47 P5.12 (in), 48 P5.13 (in), 49 P5.14 (in), 50 P5.15 (in), 51 P2.12 (io), 52 P2.11 (io), 55 P2.0 (io), 56 P2.1 (io), 58 P2.2 (io), 60 P4.0 (io), 61 P2.3 (io), 63 P4.1 (io), 64 P2.4 (io), 67 P2.5 (io), 68 P4.2 (io), 69 P2.6 (io), 70 P4.4 (io), 71 P4.3 (io), 75 P0.0 (io), 76 P4.5 (io), 77 P4.6 (io), 78 P2.7 (io), 79 P0.1 (io), 80 P2.8 (io), 81 P4.7 (io), 82 P2.9 (io), 83 P0.2 (io), 85 P3.0 (io), 87 P0.3 (io), 88 P3.1 (io), 90 P0.4 (io), 92 P2.13 (io), 93 P3.2 (io), 94 P2.10 (io), 96 P0.5 (io), 97 P3.3 (io), 99 P3.4 (io), 101 P3.5 (io), 102 P0.6 (io), 104 P3.6 (io), 106 P0.7 (io), 107 P3.7 (io), 111 P1.0 (io), 116 P1.1 (io), 120 P1.2 (io), 124 P1.3 (io), 129 P1.4 (io), 131 P1.5 (io), 133 P1.6 (io), 135 P1.7 (io)
part B pins: 3 ~{TESTM} (in) "Testmode Enable", 4 P7.2 (io), 5 P8.4 (io), 6 ~{TRST} (in) "Test-System Reset Input", 7 P8.3 (io), 8 P7.0 (io), 9 P7.3 (io), 10 P8.2 (io), 11 P7.1 (io), 12 P7.4 (io), 13 P8.1 (io), 16 P6.0 (io), 17 P6.1 (io), 18 P6.2 (io), 19 P6.3 (io), 21 P15.0 (in), 22 P15.1 (in), 23 P15.2 (in), 24 P15.3 (in), 25 P15.4 (in), 26 P15.5 (in), 27 P15.6 (in), 28 P15.7 (in), 53 P11.5 (io), 57 P11.4 (io), 59 P11.3 (io), 62 P11.2 (io), 65 P11.1 (io), 66 P11.0 (io), 84 P10.0 (io), 86 P10.1 (io), 89 P10.2 (io), 95 P10.3 (io), 98 P10.4 (io), 100 P10.5 (io), 103 P10.6 (io), 105 P10.7 (io), 112 P9.0 (io), 113 P10.8 (io), 114 P9.1 (io), 115 P10.9 (io), 117 P10.10 (io), 118 P10.11 (io), 119 P9.2 (io), 121 P10.12 (io), 122 P9.3 (io), 123 P10.13 (io), 125 P9.4 (io), 126 P9.5 (io), 128 P10.14 (io), 130 P10.15 (io), 132 P9.6 (io), 134 P9.7 (io), 136 XTAL2 "Crystal Oscillator Amplifier Output", 137 XTAL1, 138 ~{PORST} (in) "Power On Reset Input", 139 ~{ESR1} (io), 140 ~{ESR2} (io), 141 ~{ESR0} (io), 142 P8.6 (io), 143 P8.5 (io)
part C pins: 1 VSS (power) "Digital Ground", 2 VDDPB (power) "Digital Pad Supply Voltage for Domain B", 14 VDDI1 (power) "Digital Core Supply Voltage for Domain 1", 15 VDDIM (power) "Digital Core Supply Voltage for Domain M", 20 VDDPA (power) "Digital Pad Supply Voltage for Domain A", 29 VAREF1 (power) "Reference Voltage for A/D Converter ADC1", 30 VAREF0 (power) "Reference Voltage for A/D Converter ADC0", 31 VAGND (power) "Reference Ground for A/D Converters ADC0/1", 36 VDDPB (power) "Digital Pad Supply Voltage for Domain B", 37 VSS (power) "Digital Ground", 38 VDDPB (power) "Digital Pad Supply Voltage for Domain B", 54 VDDI1 (power) "Digital Core Supply Voltage for Domain 1", 72 VDDPB (power) "Digital Pad Supply Voltage for Domain B", 73 VSS (power) "Digital Ground", 74 VDDPB (power) "Digital Pad Supply Voltage for Domain B", 91 VDDI1 (power) "Digital Core Supply Voltage for Domain 1", 108 VDDPB (power) "Digital Pad Supply Voltage for Domain B", 109 VSS (power) "Digital Ground", 110 VDDPB (power) "Digital Pad Supply Voltage for Domain B", 127 VDDI1 (power) "Digital Core Supply Voltage for Domain 1", 144 VDDPB (power) "Digital Pad Supply Voltage for Domain B", 145 EP (power)

## SAK-XC2388E-136F128L
designator U?
128 MHz XC2300 MCU with 1,088 KByte Program Memory, 90 KByte SRAM, 3 V, 5.5 V, -40 to 125 degC, PG-LQFP-144, Reel, Green; Manufacturer: Infineon; PartNumber: SAK-XC2388E-136F128L; A / D input lines (incl. FADC): 24; CAN Nodes: 3; Digital I/O Lines: 118; DMA Channels: 16; DSP functionality (e.g MDU/MAC): TRUE; Instruction width [bits]: 16/32; Max Clock Frequency: 128 MHz; Number of ADC Modules: 2; Serial I/O Interfaces: 4; Timed I/O Pins (PWM-Ch,CAPCOM): 32; Timer / Counter: 17; Type of Memory: Flash; Type of Serial I/O Interfaces: SPI(1), LIN, UART, I2C, I2S; DatasheetVersion: Rev. 1.2; PackageVersion: V1.2, 06/2012; PackageReference: PG-LQFP-144-16; PackageDescription: 144-Pin Plastic Green Thin Quad Flat Package, Body 20 x 20 mm, Pitch 0.5 mm; E2PROM Emulation (Data-Flash): TRUE; External Bus interface: TRUE; FlexRay TM: TRUE; Green: TRUE; I/O Operation Voltages: 3 V, 5.5 V; LIN BSL loader (for fast Flash programming): TRUE; On-chip clock generation: TRUE; On-chip Voltage Regulator: TRUE; Oscillator Watchdog: TRUE; Packing: Reel; Power Modes: 2; Program Memory: 1,088 KByte; Real Time Clock (RTC): TRUE; SRAM (incl. Cache): 90 KByte; Watchdog Timer: TRUE; Mounting Technology: Surface Mount; Code_JEDEC: J-STD-020C; ComponentLink1Description: Manufacturer URL; ComponentLink1URL: http://www.infineon.com/; ComponentLink2Description: Datasheet; ComponentLink2URL: http://www.infineon.com/dgdl/xc238xe_ds_V1.2_2012_06.pdf?folderId=db3a30431375fb1a0113864e0cc701b6&fileId=db3a304333227b5e0133405dda741ce6; ComponentLink3Description: Package Specification; ComponentLink3URL: http://www.infineon.com/dgdl/xc228xi_ds_V1.2_2012_06.pdf?folderId=db3a3043132679fb01133eb909a307c3&fileId=db3a304333227b5e0133404db62c1cd4&sId=db3a30433d956bc3013d9f37c38628d5
footprint INF-PG-LQFP-144-16_N (QFP, 144-Leads, Body 20x20mm, Pitch 0.5mm, Thermal Pad 7.5x7.5mm, IPC Medium Density)
footprint INF-PG-LQFP-144-16_L (QFP, 144-Leads, Body 20x20mm, Pitch 0.5mm, Thermal Pad 7.5x7.5mm, IPC High Density)
footprint INF-PG-LQFP-144-16_M (QFP, 144-Leads, Body 20x20mm, Pitch 0.5mm, Thermal Pad 7.5x7.5mm, IPC Low Density)
part A pins: 4 P7.2 (io), 5 P8.4 (io), 7 P8.3 (io), 8 P7.0 (io), 9 P7.3 (io), 10 P8.2 (io), 11 P7.1 (io), 12 P7.4 (io), 13 P8.1 (io), 16 P6.0 (io), 17 P6.1 (io), 18 P6.2 (io), 19 P6.3 (io), 21 P15.0 (in), 22 P15.1 (in), 23 P15.2 (in), 24 P15.3 (in), 25 P15.4 (in), 26 P15.5 (in), 27 P15.6 (in), 28 P15.7 (in), 32 P5.0 (in), 33 P5.1 (in), 34 P5.2 (in), 35 P5.3 (in), 39 P5.4 (in), 40 P5.5 (in), 41 P5.6 (in), 42 P5.7 (in), 43 P5.8 (in), 44 P5.9 (in), 45 P5.10 (in), 46 P5.11 (in), 47 P5.12 (in), 48 P5.13 (in), 49 P5.14 (in), 50 P5.15 (in), 51 P2.12 (io), 52 P2.11 (io), 53 P11.5 (io), 55 P2.0 (io), 56 P2.1 (io), 57 P11.4 (io), 58 P2.2 (io), 59 P11.3 (io), 60 P4.0 (io), 61 P2.3 (io), 62 P11.2 (io), 63 P4.1 (io), 64 P2.4 (io), 65 P11.1 (io), 66 P11.0 (io), 67 P2.5 (io), 68 P4.2 (io), 69 P2.6 (io), 70 P4.4 (io), 71 P4.3 (io), 75 P0.0 (io), 76 P4.5 (io), 77 P4.6 (io), 78 P2.7 (io), 79 P0.1 (io), 80 P2.8 (io), 81 P4.7 (io), 82 P2.9 (io), 83 P0.2 (io), 84 P10.0 (io), 85 P3.0 (io), 86 P10.1 (io), 87 P0.3 (io), 88 P3.1 (io), 89 P10.2 (io), 90 P0.4 (io), 92 P2.13 (io), 93 P3.2 (io), 94 P2.10 (io), 95 P10.3 (io), 96 P0.5 (io), 97 P3.3 (io), 98 P10.4 (io), 99 P3.4 (io), 100 P10.5 (io), 101 P3.5 (io), 102 P0.6 (io), 103 P10.6 (io), 104 P3.6 (io), 105 P10.7 (io), 106 P0.7 (io), 107 P3.7 (io), 111 P1.0 (io), 112 P9.0 (io), 113 P10.8 (io), 114 P9.1 (io), 115 P10.9 (io), 116 P1.1 (io), 117 P10.10 (io), 118 P10.11 (io), 119 P9.2 (io), 120 P1.2 (io), 121 P10.12 (io), 122 P9.3 (io), 123 P10.13 (io), 124 P1.3 (io), 125 P9.4 (io), 126 P9.5 (io), 128 P10.14 (io), 129 P1.4 (io), 130 P10.15 (io), 131 P1.5 (io), 132 P9.6 (io), 133 P1.6 (io), 134 P9.7 (io), 135 P1.7 (io), 142 P8.6 (io), 143 P8.5 (io)
part B pins: 3 ~{TESTM} (in) "Testmode Enable", 6 ~{TRST} (in) "Test-System Reset Input", 136 XTAL2 "Crystal Oscillator Amplifier Output", 137 XTAL1 (in), 138 ~{PORST} (in) "Power On Reset Input", 139 ~{ESR1} (io), 140 ~{ESR2} (io), 141 ~{ESR0} (io)
part C pins: 1 VSS (power) "Digital Ground", 2 VDDPB (power) "Digital Pad Supply Voltage for Domain B", 14 VDDI1 (power) "Digital Core Supply Voltage for Domain 1", 15 VDDIM (power) "Digital Core Supply Voltage for Domain M", 20 VDDPA (power) "Digital Pad Supply Voltage for Domain A", 29 VAREF1 (power) "Reference Voltage for A/D Converter ADC1", 30 VAREF0 (power) "Reference Voltage for A/D Converter ADC0", 31 VAGND (power) "Reference Ground for A/D Converters ADC0/1", 36 VDDPB (power) "Digital Pad Supply Voltage for Domain B", 37 VSS (power) "Digital Ground", 38 VDDPB (power) "Digital Pad Supply Voltage for Domain B", 54 VDDI1 (power) "Digital Core Supply Voltage for Domain 1", 72 VDDPB (power) "Digital Pad Supply Voltage for Domain B", 73 VSS (power) "Digital Ground", 74 VDDPB (power) "Digital Pad Supply Voltage for Domain B", 91 VDDI1 (power) "Digital Core Supply Voltage for Domain 1", 108 VDDPB (power) "Digital Pad Supply Voltage for Domain B", 109 VSS (power) "Digital Ground", 110 VDDPB (power) "Digital Pad Supply Voltage for Domain B", 127 VDDI1 (power) "Digital Core Supply Voltage for Domain 1", 144 VDDPB (power) "Digital Pad Supply Voltage for Domain B", 145 EP (power) "Connected internally to VSS."

## SAK-XC2712X-8F40R AA
designator U?
40 MHz XC2700 MCU with 64 KByte Program Memory, 8 KByte SRAM, 3 V, 5.5 V, -40 to 125 degC, PG-TSSOP-38, Reel, Green; Manufacturer: Infineon; PartNumber: SAK-XC2712X-8F40R AA; A / D input lines (incl. FADC): 8; CAN Nodes: 0; Digital I/O Lines: 28; DMA Channels: 8(16); DSP functionality (e.g MDU/MAC): TRUE; Instruction width [bits]: 16/32; LIN BSL loader (for fast Flash programming): FALSE; Max Clock Frequency: 40 MHz; Number of ADC Modules: 1; Power Modes: 2; SRAM (incl. Cache): 8 KByte; Timed I/O Pins (PWM-Ch,CAPCOM): up to 17; Timer / Counter: 11; Type of Memory: Flash; Type of Serial I/O Interfaces: SPI(2), LIN, UART, I2C, I2S; DatasheetVersion: Rev. 1.2; PackageVersion: V1.2, 07/2012; PackageReference: PG-TSSOP-38-8; PackageDescription: 38-Pin Plastic (Green) Thin Shrink Small Outline Package, Body 9.7 x 4.4 mm, Pitch 0.5 mm; E2PROM Emulation (Data-Flash): TRUE; External Bus interface: TRUE; Green: TRUE; Halogen-free: TRUE; I/O Operation Voltages: 3 V, 5.5 V; On-chip clock generation: TRUE; On-chip Voltage Regulator: TRUE; Oscillator Watchdog: TRUE; Packing: Reel; Program Memory: 64 KByte; Real Time Clock (RTC): TRUE; Serial I/O Interfaces: 2; Watchdog Timer: TRUE; Mounting Technology: Surface Mount; Code_JEDEC: J-STD-020C; ComponentLink1Description: Manufacturer URL; ComponentLink1URL: http://www.infineon.com/; ComponentLink2Description: Datasheet; ComponentLink2URL: http://www.infineon.com/dgdl/xc2712x_ds_v1.2_2012_07.pdf?folderId=db3a304412b407950112b409d4b00386&fileId=db3a30432fe423be01300241860d6340; ComponentLink3Description: Package Specification; ComponentLink3URL: http://www.infineon.com/dgdl/xc2210u_ds_v1.2_2012_07.pdf?folderId=db3a304412b407950112b409d4b00386&fileId=db3a30432fe423be01300234af6b6315&sId=db3a30433d956bc3013da090094b2cd9
footprint INF-PG-TSSOP-38-8_N (SOP, 38-Leads, Body 9.7x4.4mm, Pitch 0.5mm, IPC Medium Density)
footprint INF-PG-TSSOP-38-8_L (SOP, 38-Leads, Body 9.7x4.4mm, Pitch 0.5mm, IPC High Density)
footprint INF-PG-TSSOP-38-8_M (SOP, 38-Leads, Body 9.7x4.4mm, Pitch 0.5mm, IPC Low Density)
pins: 1 VAREF (power) "Reference Voltage for A/D Converters ADC0", 2 VAGND (power) "Reference Ground for A/D Converters ADC0", 3 P5.0 (in), 4 P5.2 (in), 5 P5.3 (in), 6 P5.4 (in), 7 P5.8 (in), 8 P2.0 (io), 9 VSS (power) "Digital Ground. All VSS pins must be connected to the ground-line or ground-plane.", 10 VDDPB (power) "Digital Pad Supply Voltage for Domain B. Connect decoupling capacitors to adjacent VDDP/VSS pin pairs as close as possible to the pins.", 11 P2.3 (io), 12 P2.4 (io), 13 P2.5 (io), 14 P2.6 (io), 15 P2.7 (io), 16 P2.8 (io), 17 P2.9 (io), 18 P2.10 (io), 19 P10.0 (io), 20 P10.1 (io), 21 P10.2 (io), 22 P10.3 (io), 23 P10.4 (io), 24 P10.5 (io), 25 P10.6 (io), 26 P10.7 (io), 27 P10.8 (io), 28 P10.9 (io), 29 VDDPB (power) "Digital Pad Supply Voltage for Domain B. Connect decoupling capacitors to adjacent VDDP/VSS pin pairs as close as possible to the pins.", 30 VSS (power) "Digital Ground. All VSS pins must be connected to the ground-line or ground-plane.", 31 VDDIM (power) "Digital Core Supply Voltage for Domain M. Decouple with a ceramic capacitor, see Data Sheet for details. All VDDIM pins must be connected to each other.", 32 P10.10 (io), 33 P10.12 (io), 34 ~{PORST} (in) "Power On Reset Input. A low level at this pin resets the XC2712X completely. A spike filter suppresses input pulses <10 ns. Input pulses >100 ns safely pass the filter. The minimum duration for a safe recognition should be (See Datasheet)", 35 ~{TESTM} (in) "Testmode Enable. Enables factory test modes, must be held HIGH for normal operation (connect to VDDPB). An internal pullup device will hold this pin high when nothing is driving it.", 36 ~{TRST} (in) "Test-System Reset Input. For normal system operation, pin T\R\S\T\ should be held low. A high level at this pin at the rising edge of P\O\R\S\T\ activates the XC2712X¡¯s debug system. In this case, pin T\R\S\T\ must b(See Datasheet)", 37 P6.1 (io), 38 P6.0 (io)

## SAK-XC2723X-20F66V AA
designator U?
66 MHz XC2700 MCU with 160 KByte Program Memory, 12 KByte SRAM, 3 V, 5.5 V, -40 to 125 degC, PG-VQFN-48, Reel, Green; Manufacturer: Infineon; PartNumber: SAK-XC2723X-20F66V AA; A / D input lines (incl. FADC): 10; CAN Nodes: 1; Digital I/O Lines: 33; DMA Channels: 8(16); DSP functionality (e.g MDU/MAC): TRUE; Instruction width [bits]: 16/32; LIN BSL loader (for fast Flash programming): FALSE; Max Clock Frequency: 66 MHz; Power Modes: 2; Serial I/O Interfaces: 4; Timed I/O Pins (PWM-Ch,CAPCOM): up to 23; Timer / Counter: 13; Type of Memory: Flash; Type of Serial I/O Interfaces: SPI(4), LIN, UART, I2C, I2S; DatasheetVersion: Rev. 1.2; PackageVersion: Nov-10; PackageReference: PG-VQFN-48-54; PackageDescription: 48-Pin Plastic (Green) Very Thin Profile Quad Flat Non Leaded Package, Body 6.8 x 6.8 mm, Pitch 0.5 mm; Supplier 1: Mouser; Supplier Part Number 1: 726-SAKXC2723X266VAA; E2PROM Emulation (Data-Flash): TRUE; External Bus interface: TRUE; Green: TRUE; Halogen-free: TRUE; I/O Operation Voltages: 3 V, 5.5 V; Number of ADC Modules: 1; On-chip clock generation: TRUE; On-chip Voltage Regulator: TRUE; Oscillator Watchdog: TRUE; Packing: Reel; Program Memory: 160 KByte; Real Time Clock (RTC): TRUE; SRAM (incl. Cache): 12 KByte; Watchdog Timer: TRUE; Mounting Technology: Surface Mount; ComponentLink1Description: Manufacturer URL; ComponentLink1URL: http://www.infineon.com/; ComponentLink2Description: Datasheet; ComponentLink2URL: http://www.infineon.com/dgdl/xc2723x_ds_v1.2_2012_07.pdf?folderId=db3a304412b407950112b409d4b00386&fileId=db3a30432fe423be013002079a4e62d9; ComponentLink3Description: Package Specification; ComponentLink3URL: http://www.infineon.com/dgdl/PG-VQFN-48-15%2C-19%2C-20%2C-22%2C-24%2C-48%2C-51%2C-52%2C-53%2C-54%2C-55%2C-56%2C-57-Package_Overview.pdf?folderId=db3a304319c6f18c0119e80a8f2559bf&fileId=db3a304319c6f18c011a0b8b18c33200
footprint INF-PG-VQFN-48-54_N (QFN, 48-Leads, Body 6.8x6.8mm, Pitch 0.5mm, Thermal Pad 5.2x5.2mm, IPC Medium Density)
footprint INF-PG-VQFN-48-54_L (QFN, 48-Leads, Body 6.8x6.8mm, Pitch 0.5mm, Thermal Pad 5.2x5.2mm, IPC High Density)
footprint INF-PG-VQFN-48-54_M (QFN, 48-Leads, Body 6.8x6.8mm, Pitch 0.5mm, Thermal Pad 5.2x5.2mm, IPC Low Density)
pins: 1 ~{TESTM} (in) "Testmode Enable. Enables factory test modes, must be held HIGH for normal operation (connect to VDDPB). An internal pullup device will hold this pin high when nothing is driving it.", 2 ~{TRST} (in) "Test-System Reset Input. For normal system operation, pin T\R\S\T\ should be held low. A high level at this pin at the rising edge of P\O\R\S\T\ activates the XC2723X¡¯s debug system. In this case, pin T\R\S\T\ must b(See Datasheet)", 3 P6.3 (io), 4 P6.1 (io), 5 P6.0 (io), 6 VSS (power) "Digital Ground. All VSS pins must be connected to the ground-line or ground-plane.", 7 VDDPB (power) "Digital Pad Supply Voltage for Domain B. Connect decoupling capacitors to adjacent VDDP/VSS pin pairs as close as possible to the pins.", 8 VAREF (power) "Reference Voltage for A/D Converters ADC0", 9 VAGND (power) "Reference Ground for A/D Converters ADC0", 10 P5.0 (in), 11 P5.2 (in), 12 P5.3 (in), 13 P5.4 (in), 14 P5.8 (in), 15 P5.9 (in), 16 P2.0 (io), 17 P2.1 (io), 18 VDDIM (power) "Digital Core Supply Voltage for Domain M. Decouple with a ceramic capacitor, see Data Sheet for details. All VDDIM pins must be connected to each other.", 19 VSS (power) "Digital Ground. All VSS pins must be connected to the ground-line or ground-plane.", 20 VDDPB (power) "Digital Pad Supply Voltage for Domain B. Connect decoupling capacitors to adjacent VDDP/VSS pin pairs as close as possible to the pins.", 21 P2.2 (io), 22 P2.3 (io), 23 P2.4 (io), 24 P2.5 (io), 25 P2.6 (io), 26 P2.7 (io), 27 P2.8 (io), 28 P2.9 (io), 29 P2.10 (io), 30 P2.13 (io), 31 P10.0 (io), 32 P10.1 (io), 33 P10.2 (io), 34 P10.3 (io), 35 P10.4 (io), 36 P10.5 (io), 37 P10.6 (io), 38 P10.7 (io), 39 P10.8 (io), 40 P10.9 (io), 41 VDDPB (power) "Digital Pad Supply Voltage for Domain B. Connect decoupling capacitors to adjacent VDDP/VSS pin pairs as close as possible to the pins.", 42 VSS (power) "Digital Ground. All VSS pins must be connected to the ground-line or ground-plane.", 43 VDDIM (power) "Digital Core Supply Voltage for Domain M. Decouple with a ceramic capacitor, see Data Sheet for details. All VDDIM pins must be connected to each other.", 44 P10.10 (io), 45 P10.12 (io), 46 XTAL2 "Crystal Oscillator Amplifier Output", 47 XTAL1, 48 ~{PORST} (in) "Power On Reset Input. A low level at this pin resets the XC2723X completely. A spike filter suppresses input pulses <10 ns. Input pulses >100 ns safely pass the filter. The minimum duration for a safe recognition should be (See Datasheet)", 49 EP (power)

## SAK-XC2733X-20F66L AA
designator U?
66 MHz XC2700 MCU with 160 KByte Program Memory, 12 KByte SRAM, 3 V, 5.5 V, -40 to 125 degC, PG-LQFP-64, Reel, Green; Manufacturer: Infineon; PartNumber: SAK-XC2733X-20F66L AA; A / D input lines (incl. FADC): 19; CAN Nodes: 1; Digital I/O Lines: 48; DMA Channels: 8(16); DSP functionality (e.g MDU/MAC): TRUE; Instruction width [bits]: 16/32; LIN BSL loader (for fast Flash programming): FALSE; Max Clock Frequency: 66 MHz; Power Modes: 2; Serial I/O Interfaces: 4; Timed I/O Pins (PWM-Ch,CAPCOM): up to 24; Timer / Counter: 13; Type of Memory: Flash; Type of Serial I/O Interfaces: SPI(4), LIN, UART, I2C, I2S; DatasheetVersion: Rev. 1.2; PackageVersion: Feb-13; PackageReference: PG-LQFP-64-22; PackageDescription: 64-Pin Plastic (Green) Low Profile Quad Flat Package, Body 10 x 10 mm, Pitch 0.5 mm; E2PROM Emulation (Data-Flash): TRUE; External Bus interface: TRUE; Green: TRUE; Halogen-free: TRUE; I/O Operation Voltages: 3 V, 5.5 V; Number of ADC Modules: 1; On-chip clock generation: TRUE; On-chip Voltage Regulator: TRUE; Oscillator Watchdog: TRUE; Packing: Reel; Program Memory: 160 KByte; Real Time Clock (RTC): TRUE; SRAM (incl. Cache): 12 KByte; Watchdog Timer: TRUE; Mounting Technology: Surface Mount; ComponentLink1Description: Manufacturer URL; ComponentLink1URL: http://www.infineon.com/; ComponentLink2Description: Datasheet; ComponentLink2URL: http://www.infineon.com/dgdl/xc2733x_ds_v1.2_2012_07.pdf?folderId=db3a304412b407950112b409d4b00386&fileId=db3a30432fe423be0130020cbe8762e2; ComponentLink3Description: Package Specification; ComponentLink3URL: http://www.infineon.com/dgdl/PG-LQFP-64-6%2C-8%2C-12%2C-19%2C-22-Package_Overview.pdf?folderId=db3a304318f3fe29011919857f7b2e0a&fileId=db3a30431a5c32f2011a8cbd8b4b5d28
footprint INF-PG-LQFP-64-22_N (QFP, 64-Leads, Body 10x10mm, Pitch 0.5mm, Thermal Pad 5.4x5.4mm, IPC Medium Density)
footprint INF-PG-LQFP-64-22_L (QFP, 64-Leads, Body 10x10mm, Pitch 0.5mm, Thermal Pad 5.4x5.4mm, IPC High Density)
footprint INF-PG-LQFP-64-22_M (QFP, 64-Leads, Body 10x10mm, Pitch 0.5mm, Thermal Pad 5.4x5.4mm, IPC Low Density)
part A pins: 2 ~{TESTM} (in) "Testmode Enable", 3 ~{TRST} (in) "Test-SYstem Reset Input", 4 P6.3 (io), 5 P6.2 (io), 6 P6.1 (io), 7 P6.0 (io), 11 P5.0 (in), 12 P5.1 (in), 13 P5.2 (in), 14 P5.3 (in), 15 P5.5 (in), 16 P5.6 (in), 17 P5.4 (in), 18 P5.7 (in), 19 P5.8 (in), 20 P5.9 (in), 21 P5.10 (in), 22 P5.11 (in), 23 P5.13 (in), 24 P5.15 (in), 25 P2.0 (io), 26 P2.1 (io), 29 P2.2 (io), 30 P2.3 (io), 31 P2.4 (io), 32 P2.5 (io), 34 P2.6 (io), 35 P2.7 (io), 36 P2.8 (io), 37 P2.9 (io), 38 P2.10 (io), 39 P2.11 (io), 40 P2.12 (io), 41 P2.13 (io), 43 P10.0 (io), 44 P10.1 (io), 45 P10.2 (io), 46 P10.3 (io), 47 P10.4 (io), 48 P10.5 (io), 49 P10.6 (io), 50 P10.7 (io), 51 P10.8 (io), 52 P10.9 (io), 53 P10.13 (io), 54 P10.14 (io), 55 P10.15 (io), 58 P10.10 (io), 59 P10.11 (io), 60 P10.12 (io), 61 XTAL2 "CrYstal Oscillator Amplifier Output", 62 XTAL1, 63 ~{PORST} (in) "Power On Reset Input", 64 ESR0 (io)
part B pins: 1 VSS (power) "Digital Ground", 8 VDDPB (power) "Digital Pad SupplY Voltage for Domain B", 9 VAREF (power) "Reference Voltage for A/D Converters ADC0", 10 VAGND (power) "Reference Ground for A/D Converters ADC0", 27 VDDIM (power) "Digital Core SupplY Voltage for Domain M", 28 VDDPB (power) "Digital Pad SupplY Voltage for Domain B", 33 VSS (power) "Digital Ground", 42 VDDPB (power) "Digital Pad SupplY Voltage for Domain B", 56 VDDPB (power) "Digital Pad SupplY Voltage for Domain B", 57 VDDIM (power) "Digital Core SupplY Voltage for Domain M", 65 EP (power)